# Altium footprint library MOSFETS.PcbLib: 2 footprints
Each footprint in its own frame and in the unit in brackets; x right, y up, seen from the top. Pads: shape width x height; smd on the part's side, far side on the other; paste and mask are expansions set on the pad; w line width, h text height; cw(c..) or ccw(c..) is an arc to the next point about the centre after c.
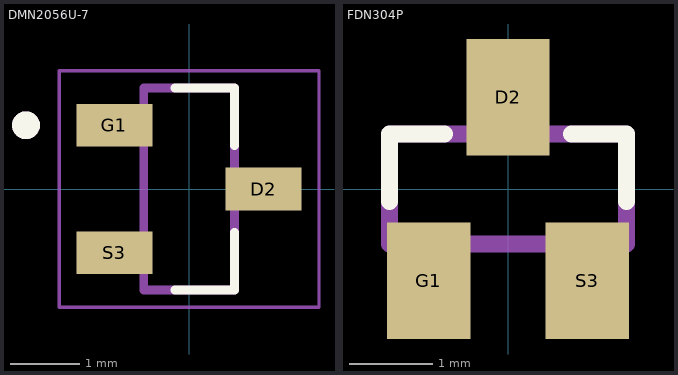
[diagram p0: the footprints below, top view; thin cyan lines are the x and y axes]

## DMN2056U-7 [mm] "N-Mosfet"
pads (3):
  rect 1.09x0.61 smd paste+0 mask+0.102: D2(1.07,0) G1(-1.07,0.915) S3(-1.07,-0.915)
Top Overlay:
  circle w0.2: c-2.34,0.915 r0.1
  lines w0.127: -0.205,-1.45 0.65,-1.45 0.65,-0.625 ; -0.205,1.45 0.65,1.45 0.65,0.625
Mechanical 13:
  circle w0.2: c-2.34,0.915 r0.1
  lines w0.127: -0.65,-1.45 0.65,-1.45 0.65,1.45 -0.65,1.45 -0.65,-1.45
Mechanical 15:
  lines w0.05: -1.865,-1.7 -1.865,1.7 1.865,1.7 1.865,-1.7 -1.865,-1.7
3D body "DMN2056U-7.STEP": height 1.14, standoff 0, extent -1.327,-1.45 1.073,1.45

## FDN304P [mm] "P-Mosfet"
pads (3):
  rect 1x1.4 smd: D2(0,1.1) G1(-0.95,-1.1) S3(0.95,-1.1)
Top Overlay:
  lines w0.203: -1.422,-0.152 -1.422,0.66 -0.764,0.66 ; 0.764,0.66 1.422,0.66 1.422,-0.152
Mechanical 13:
  region: 0.229,0.712 -0.229,0.712 -0.229,1.295 0.229,1.295
  region: 1.168,-1.296 0.712,-1.296 0.712,-0.711 1.168,-0.711
  region: -0.711,-1.298 -1.171,-1.298 -1.171,-0.711 -0.711,-0.711
  lines w0.203: -1.422,-0.66 1.422,-0.66 1.422,0.66 -1.422,0.66 -1.422,-0.66
3D body "FDN304P.STEP": height 1.12, standoff 0, extent -1.46,-1.382 1.46,1.128